# Altium integrated library ICS-43432.IntLib: 1 symbol
Pins are listed as number, name and electrical type; pins without a type are passive.

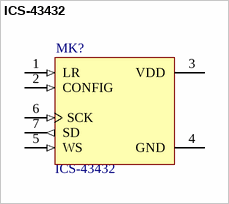
[diagram p0: symbol ICS-43432]

## ICS-43432
designator MK?
A high performance, low power, digital output, omnidirectional MEMS microphone with a bottom port.; MF: TDK InvenSense; SnapEDA_Link: https://www.snapeda.com/parts/ICS-43432/TDK%20InvenSense/view-part/?ref=snap; Package: LGA-7 TDK-InvenSense; HelpURL: https://www.digikey.com/product-detail/en/tdk-invensense/ICS-43432/1428-1053-1-ND/5177389; Model: ICS-43432
footprint MIC_ICS-43432
pins: 1 LR (in), 2 CONFIG (in), 3 VDD (power), 4 GND (power), 5 WS (in), 6 SCK (in), 7 SD (out)